# Altium footprint library PCB - LEADED - SOT-23 - MICROCHIP SOT-23-3 NB.PCBLIB: 1 footprints
Each footprint in its own frame and in the unit in brackets; x right, y up, seen from the top. Pads: shape width x height; smd on the part's side, far side on the other; paste and mask are expansions set on the pad; w line width, h text height; cw(c..) or ccw(c..) is an arc to the next point about the centre after c.
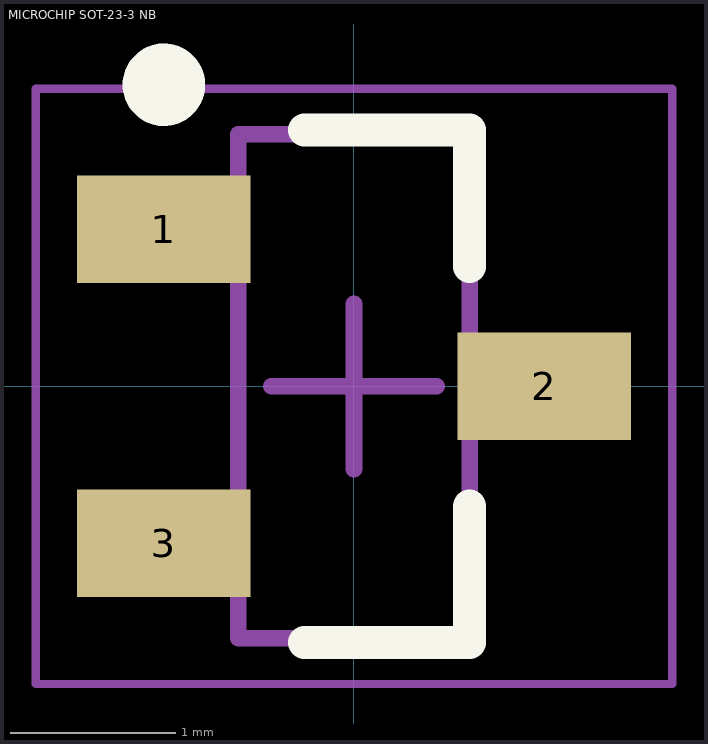
[diagram p0: the footprint, top view; thin cyan lines are the x and y axes]

## MICROCHIP SOT-23-3 NB [mm] "SOT23, 3-Leads, Body 2.86x2.37mm, Pitch 0.95mm, IPC Medium Density"
height 1.12
pads (3):
  rect 1.05x0.65 smd: 1(-1.15,0.95) 2(1.15,0) 3(-1.15,-0.95)
Top Overlay:
  circle w0.25: c-1.15,1.825 r0.125
  lines w0.2: -0.3,-1.55 0.7,-1.55 0.7,-0.725 ; -0.3,1.55 0.7,1.55 0.7,0.725
Mechanical 13:
  lines w0.1: -0.7,-1.525 -0.7,1.525 0.7,1.525 0.7,-1.525 -0.7,-1.525
Mechanical 15:
  lines w0.05: -1.925,-1.8 -1.925,1.8 1.925,1.8 1.925,-1.8 -1.925,-1.8
Mechanical 2 (Mech9):
  lines w0.1: -0.5,0 0.5,0 ; 0,-0.5 0,0.5
3D body "sot-23-3-microchip.STEP": height 1.22, standoff 0, extent -1.22,-1.45 1.221,1.45